# Altium schematic symbol library 电源管理.SCHLIB: 68 symbols
Pins are listed as number, name and electrical type; pins without a type are passive.

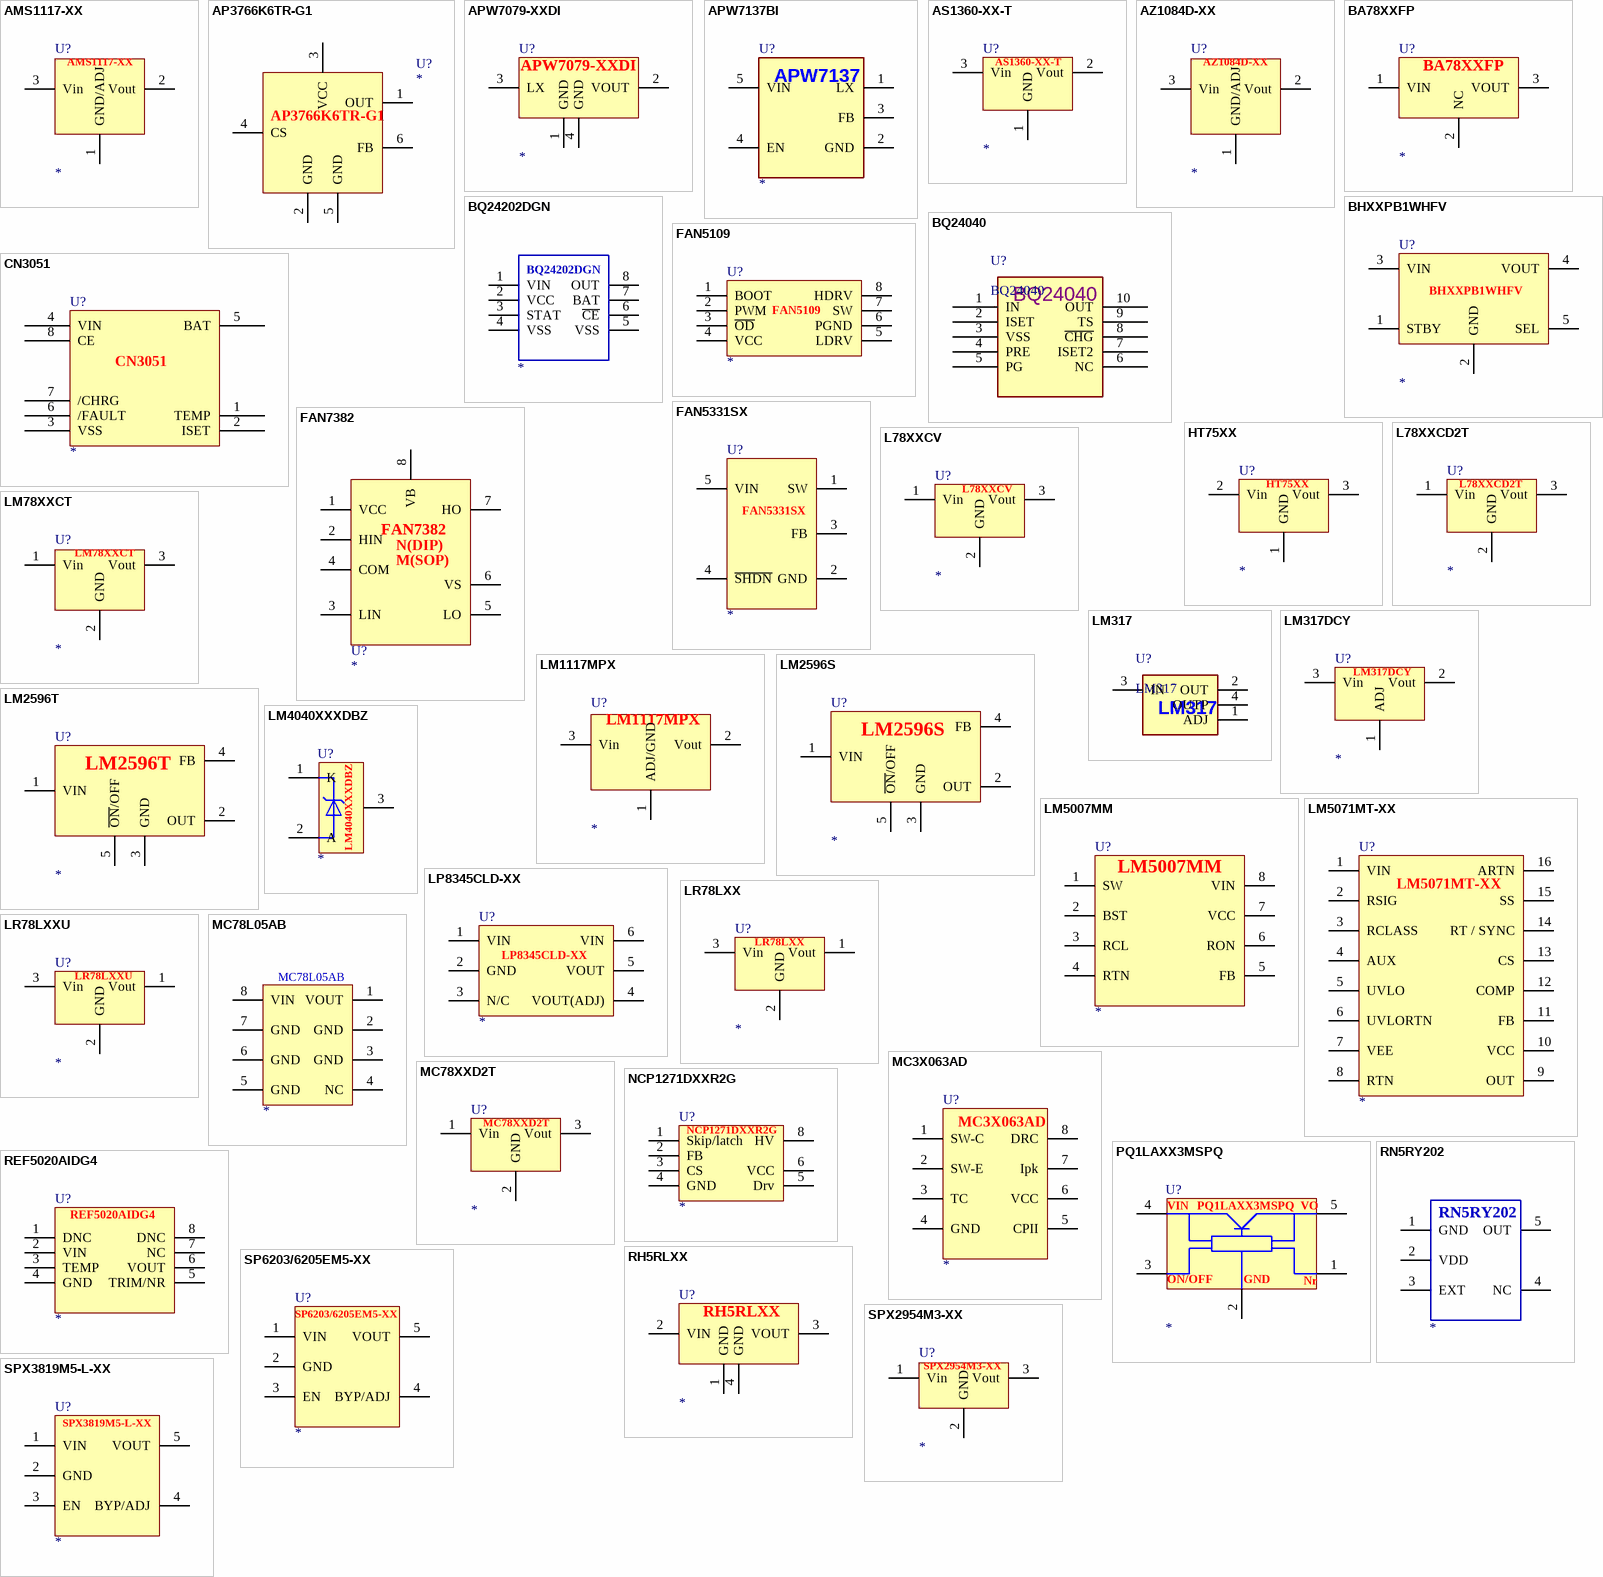
[diagram p0: symbols AMS1117-XX to SPX3819M5-L-XX]

## AMS1117-XX
designator U?
AMS   800mA LOW DROPOUT VOLTAGE REGULATOR
footprint SOT-223-4
pins: 1 GND/ADJ, 2 Vout, 3 Vin

## AP3766K6TR-G1
designator U?
BCD LOW-POWER OFF-LINE PRIMARY SIDE REGULATION CONTROLLER
footprint SOT-23-6P
pins: 1 OUT, 2 GND, 3 VCC, 4 CS, 5 GND, 6 FB

## APW7079-XXDI
designator U?
ANPEC Low-Supply-Current Synchronous Step-up DC-DC Converter
footprint SOT-89-4P
pins: 1 GND, 2 VOUT, 3 LX, 4 GND

## APW7137BI
designator U?
ANPEC  1MHz, High Efficiency, Step-Up Converter with Internal FET Switch
footprint SOT-23-5P
pins: 1 LX, 2 GND, 3 FB, 4 EN, 5 VIN
text: APW7137

## AS1360-XX-T
designator U?
AUMS 1.5μA Low-Power, Positive Voltage Regulator
footprint SOT-23-3P
pins: 1 GND, 2 Vout, 3 Vin

## AZ1084D-XX
designator U?
BCD  5A LOW DROPOUT LINEAR REGULATOR
footprint TO-252-3
pins: 1 GND/ADJ, 2 Vout, 3 Vin

## BA78XXFP
designator U?
ROHM 1A Output 78 series Regulators
footprint TO-252-3
pins: 1 VIN, 2 NC, 3 VOUT

## BHXXPB1WHFV
designator U?
ROHM  150mA LDO
footprint HNSOF5
pins: 1 STBY, 2 GND, 3 VIN, 4 VOUT, 5 SEL

## BQ24040
designator U?
pins: 1 IN, 2 ISET, 3 VSS, 4 PRE, 5 PG, 6 NC, 7 ISET2, 8 ~{CHG}, 9 TS, 10 OUT

## BQ24202DGN
designator ?
pins: 1 VIN (oe), 2 VCC (oe), 3 STAT (oe), 4 VSS (oe), 5 VSS (oe), 6 ~{CE} (oe), 7 BAT (oe), 8 OUT (oe)

## CN3051
designator U?
如韵电子 充电管理芯片
footprint SOIC-8P
pins: 1 TEMP, 2 ISET, 3 VSS, 4 VIN, 5 BAT, 6 /FAULT, 7 /CHRG, 8 CE

## FAN5109
designator U?
Dual Bootstrapped 12V MOSFET Driver
footprint SOIC-8P
pins: 1 BOOT, 2 PWM, 3 ~{OD}, 4 VCC, 5 LDRV, 6 PGND, 7 SW, 8 HDRV

## FAN5331SX
designator U?
fairchild  1.6MHz Boost Converter with 20V Integrated FET Switch
footprint SOT-23-5P
pins: 1 SW, 2 GND, 3 FB, 4 ~{SHDN}, 5 VIN

## FAN7382
designator U?
Half-Bridge Gate-Driver IC
footprint DIP-8
footprint SOIC-8P
pins: 1 VCC, 2 HIN, 3 LIN, 4 COM, 5 LO, 6 VS, 7 HO, 8 VB
text: N(DIP); M(SOP)

## HT75XX
designator U?
HOLTEK three-terminal high current low voltage regulator
footprint SOT-89-4P
footprint TO-92
pins: 1 GND, 2 Vin, 3 Vout

## L78XXCD2T
designator U?
ST POSITIVE VOLTAGE REGULATORS
footprint TO-263-3
pins: 1 Vin, 2 GND, 3 Vout

## L78XXCV
designator U?
ST POSITIVE VOLTAGE REGULATORS
footprint TO-220B
pins: 1 Vin, 2 GND, 3 Vout

## LM78XXCT
designator U?
NS Voltage Regulators
footprint TO-220B
pins: 1 Vin, 2 GND, 3 Vout

## LM317
designator U?
pins: 1 ADJ, 2 OUT, 3 IN, 4 OUTP

## LM317DCY
designator U?
TI 3-TERMINAL ADJUSTABLE REGULATOR
footprint SOT-223-4
pins: 1 ADJ, 2 Vout, 3 Vin

## LM1117MPX
designator U?
NS 800mA Low-Dropout Linear Regulator
footprint SOT-223-4
pins: 1 ADJ/GND, 2 Vout, 3 Vin

## LM2596S
designator U?
NS SIMPLE SWITCHER?Power Converter 150 kHz
footprint TO-263-5
pins: 1 VIN, 2 OUT, 3 GND, 4 FB, 5 ~{ON}/OFF

## LM2596T
designator U?
NS SIMPLE SWITCHER?Power Converter 150 kHz
footprint TO-220-5-V
pins: 1 VIN, 2 OUT, 3 GND, 4 FB, 5 ~{ON}/OFF

## LM4040XXXDBZ
designator U?
TI PRECISION MICROPOWER SHUNT VOLTAGE REFERENCE
footprint SOT-23-3P
pins: 1 K, 2 A, 3

## LM5007MM
designator U?
NS High Voltage (80V) Step Down Switching Regulator
footprint SSOP-8P
pins: 1 SW, 2 BST, 3 RCL, 4 RTN, 5 FB, 6 RON, 7 VCC, 8 VIN

## LM5071MT-XX
designator U?
NS Power Over Ethernet PD Controller with Auxiliary Power
footprint TSSOP-16P
pins: 1 VIN, 2 RSIG, 3 RCLASS, 4 AUX, 5 UVLO, 6 UVLORTN, 7 VEE, 8 RTN, 9 OUT, 10 VCC, 11 FB, 12 COMP, 13 CS, 14 RT / SYNC, 15 SS, 16 ARTN

## LP8345CLD-XX
designator U?
NS Low Dropout, Low IQ, 500mA CMOS Linear Regulator
footprint SON-6P
pins: 1 VIN, 2 GND, 3 N/C, 4 VOUT(ADJ), 5 VOUT, 6 VIN

## LR78LXX
designator U?
LRC Series3-Terminal 0.1A Positive Voltage Regulators
footprint TO-92
pins: 1 Vout, 2 GND, 3 Vin

## LR78LXXU
designator U?
LRC Series3-Terminal 0.1A Positive Voltage Regulators
footprint SOT-89-4P
pins: 1 Vout, 2 GND, 3 Vin

## MC3X063AD
designator U?
ON 1.5 A, Step-Up/Down/ Inverting Switching Regulators
footprint SOIC-8P
pins: 1 SW-C, 2 SW-E, 3 TC, 4 GND, 5 CPII, 6 VCC, 7 Ipk, 8 DRC

## MC78L05AB
designator ?
pins: 1 VOUT, 2 GND, 3 GND, 4 NC, 5 GND, 6 GND, 7 GND, 8 VIN

## MC78XXD2T
designator U?
ON 1.0 A Positive Voltage
footprint TO-263-3
pins: 1 Vin, 2 GND, 3 Vout

## NCP1271DXXR2G
designator U?
ON  Soft.Skip Mode Standby PWM Controller with  Adjustable Skip Level and  External Latch
footprint SOIC-7P
pins: 1 Skip/latch, 2 FB, 3 CS, 4 GND, 5 Drv, 6 VCC, 8 HV

## PQ1LAXX3MSPQ
designator U?
SHARP  Low Power-Loss Voltage Regulators
footprint PQ1LAXX3MSPQ
pins: 1 Nr, 2 GND, 3 ON/OFF, 4 VIN, 5 VO

## REF5020AIDG4
designator U?
TI  Low-Noise, Very Low Drift, Precision
footprint SOIC-8P
pins: 1 DNC, 2 VIN, 3 TEMP, 4 GND, 5 TRIM/NR, 6 VOUT, 7 NC, 8 DNC

## RH5RLXX
designator U?
RICOH voltage regulator ICs with high accuracy output voltage and ultra-low quiescent current
footprint SOT-89-4P
pins: 1 GND, 2 VIN, 3 VOUT, 4 GND

## RN5RY202
designator ?
pins: 1 GND (oe), 2 VDD (oe), 3 EXT (oe), 4 NC (oe), 5 OUT (oe)

## SP6203/6205EM5-XX
designator U?
SIPEX   Low Noise, 300mA and 500mA CMOS LDO Regulators
footprint SOT-23-5P
pins: 1 VIN, 2 GND, 3 EN, 4 BYP/ADJ, 5 VOUT

## SPX2954M3-XX
designator U?
SIPEX   250mA Low Dropout Voltage Regulator
footprint SOT-223-4
pins: 1 Vin, 2 GND, 3 Vout

## SPX3819M5-L-XX
designator U?
SIPEX   500mA, LOW-NOISE LDO VOLTAGE REGULATOR
footprint SOT-23-5P
pins: 1 VIN, 2 GND, 3 EN, 4 BYP/ADJ, 5 VOUT

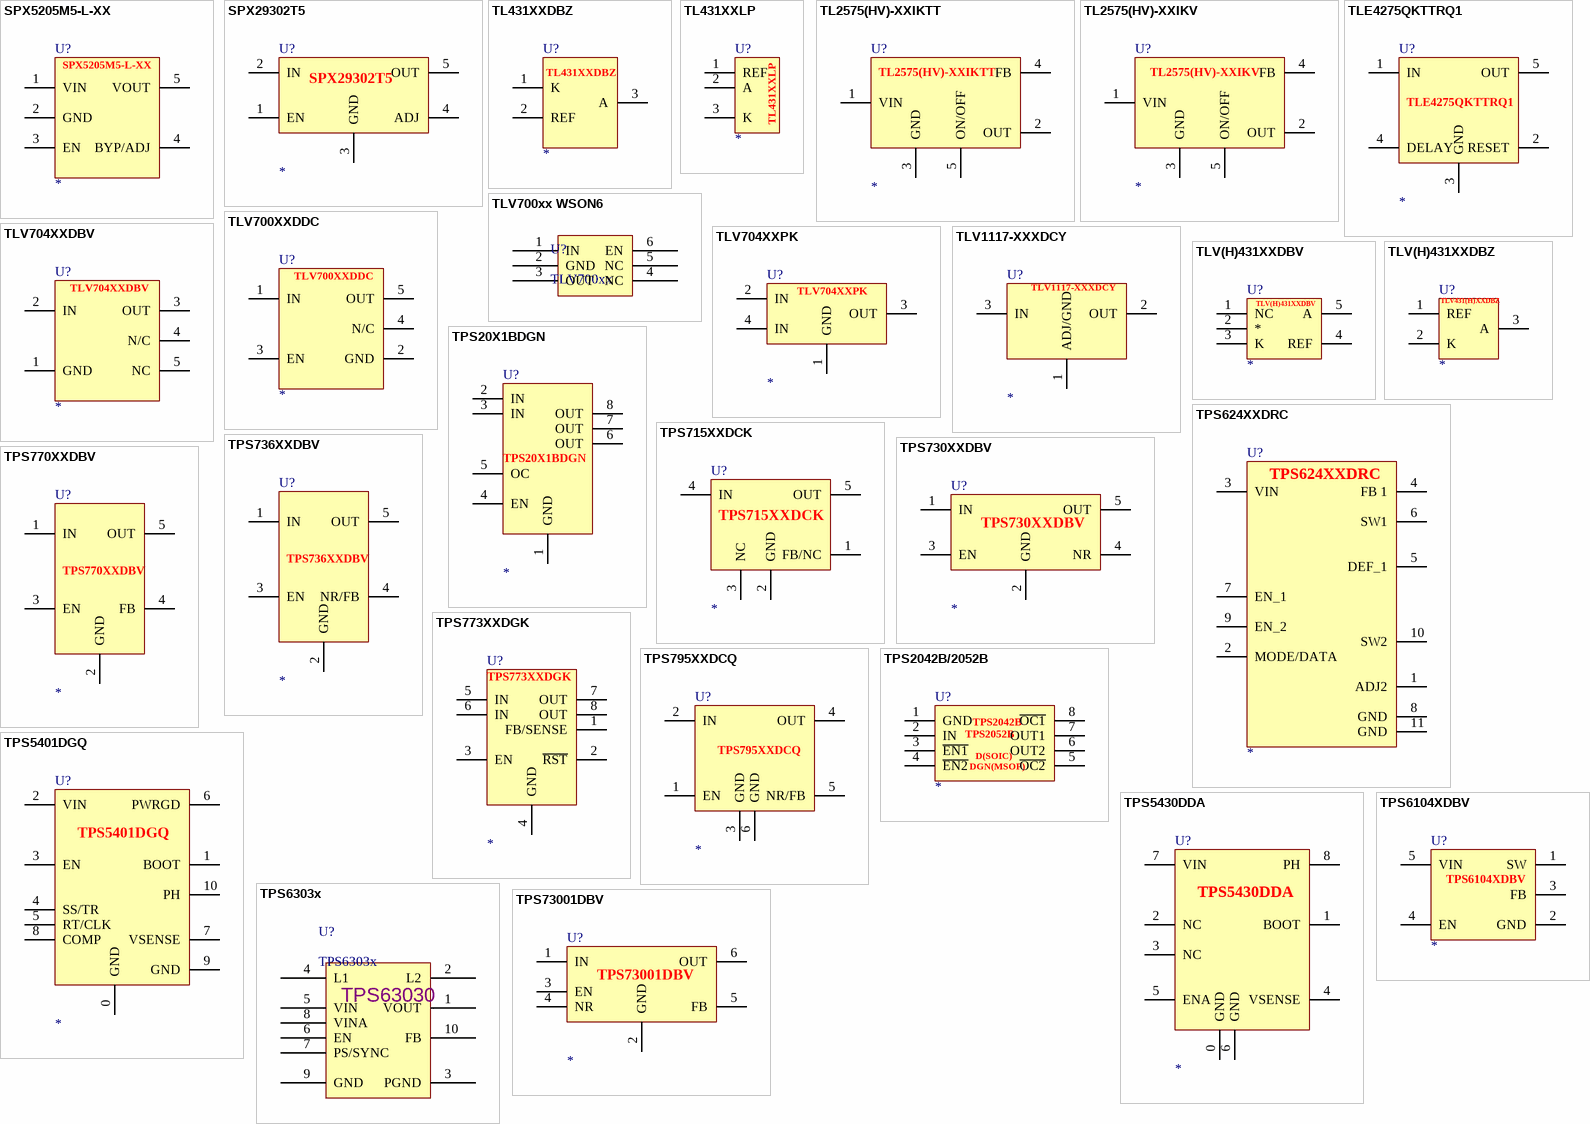
[diagram p1: symbols SPX5205M5-L-XX to TPS73001DBV]

## SPX5205M5-L-XX
designator U?
SIPEX   150mA, LOW-NOISE LDO VOLTAGE REGULATOR
footprint SOT-23-5P
pins: 1 VIN, 2 GND, 3 EN, 4 BYP/ADJ, 5 VOUT

## SPX29302T5
designator U?
SIPEX   3A High Current, Low Dropout Voltage Regulator
footprint TO-263-5
pins: 1 EN, 2 IN, 3 GND, 4 ADJ, 5 OUT

## TL431XXDBZ
designator U?
TI  three-terminal adjustable shunt regulators,
footprint SOT-23-3P
pins: 1 K, 2 REF, 3 A

## TL431XXLP
designator U?
TI three-terminal adjustable shunt regulators,
footprint TO-92
pins: 1 REF, 2 A, 3 K

## TL2575(HV)-XXIKTT
designator U?
TI 1-A SIMPLE STEP-DOWN SWITCHING VOLTAGE REGULATORS
footprint TO-263-5
pins: 1 VIN, 2 OUT, 3 GND, 4 FB, 5 ON/OFF

## TL2575(HV)-XXIKV
designator U?
TI 1-A SIMPLE STEP-DOWN SWITCHING VOLTAGE REGULATORS
footprint TO-220-5-V
pins: 1 VIN, 2 OUT, 3 GND, 4 FB, 5 ON/OFF

## TLE4275QKTTRQ1
designator U?
TI 5-V LOW-DROPOUT VOLTAGE REGULATOR
footprint TO-263-5
pins: 1 IN, 2 RESET, 3 GND, 4 DELAY, 5 OUT

## TLV700xx WSON6
designator U?, comment TLV700xx
pins: 1 IN, 2 GND, 3 OUT, 4 NC, 5 NC, 6 EN

## TLV700XXDDC
designator U?
TI 200-mA LOW-IQ LOW-DROPOUT REGULATOR FOR PORTABLE DEVICES
footprint SOT-23-5P
pins: 1 IN, 2 GND, 3 EN, 4 N/C, 5 OUT

## TLV704XXDBV
designator U?
TI 24-V Input Voltage, 150-mA, Ultralow IQ Low-Dropout Regulators
footprint SOT-23-5P
pins: 1 GND, 2 IN, 3 OUT, 4 N/C, 5 NC

## TLV704XXPK
designator U?
TI 24-V Input Voltage, 150-mA, Ultralow IQ Low-Dropout Regulators
footprint SOT-89-4P
pins: 1 GND, 2 IN, 3 OUT, 4 IN

## TLV1117-XXXDCY
designator U?
TI ADJUSTABLE AND FIXED LOW-DROPOUT VOLTAGE REGULATOR
footprint SOT-223-4
pins: 1 ADJ/GND, 2 OUT, 3 IN

## TLV(H)431XXDBV
designator U?
TI  low-voltage 3-terminal adjustable voltage reference with specified thermal stability over
footprint SOT-23-5P
pins: 1 NC, 2 *, 3 K, 4 REF, 5 A

## TLV(H)431XXDBZ
designator U?
TI low-voltage 3-terminal adjustable voltage reference with specified thermal stability over
footprint SOT-23-3P
pins: 1 REF, 2 K, 3 A
text: TLV431(H)XXDBZ

## TPS20X1BDGN
designator U?
TI CURRENT-LIMITED, POWER-DISTRIBUTION SWITCHES
footprint MSOP-8P-0.65MM-T
pins: 1 GND, 2 IN, 3 IN, 4 EN, 5 OC, 6 OUT, 7 OUT, 8 OUT

## TPS624XXDRC
designator U?
TI 2.25MHz 400mA/600mA Dual Step-Down Converter In Small 3x3mm QFN Package
footprint QFN-10P-0.5MM
pins: 1 ADJ2, 2 MODE/DATA, 3 VIN, 4 FB 1, 5 DEF_1, 6 SW1, 7 EN_1, 8 GND, 9 EN_2, 10 SW2, 11 GND

## TPS715XXDCK
designator U?
TI 50 mA, 24 V, 3.2 mA Supply Current Low-Dropout Linear Regulator in SC70 Package
footprint SOT-323
pins: 1 FB/NC, 2 GND, 3 NC, 4 IN, 5 OUT

## TPS730XXDBV
designator U?
TI LOW-NOISE, HIGH PSRR, RF 200-mA LOW-DROPOUT LINEAR REGULATORS
footprint SOT-23-5P
pins: 1 IN, 2 GND, 3 EN, 4 NR, 5 OUT

## TPS736XXDBV
designator U?
TI Cap-Free, NMOS, 400mA Low-Dropout Regulator
footprint SOT-23-5P
pins: 1 IN, 2 GND, 3 EN, 4 NR/FB, 5 OUT

## TPS770XXDBV
designator U?
TI ULTRA LOW-POWER 50-mA LOW-DROPOUT LINEAR REGULATORS
footprint SOT-23-5P
pins: 1 IN, 2 GND, 3 EN, 4 FB, 5 OUT

## TPS773XXDGK
designator U?
TI WITH RESET OUTPUT 250-mA LDO REGULATORS WITH INTEGRATED RESET
footprint MSOP-8P-0.65MM
pins: 1 FB/SENSE, 2 ~{RST}, 3 EN, 4 GND, 5 IN, 6 IN, 7 OUT, 8 OUT

## TPS795XXDCQ
designator U?
TI
footprint SOT-223-6
pins: 1 EN, 2 IN, 3 GND, 4 OUT, 5 NR/FB, 6 GND

## TPS2042B/2052B
designator U?
CURRENT-LIMITED, POWER-DISTRIBUTION SWITCHES
footprint SSOP-8P - T
footprint SOIC-8P
pins: 1 GND, 2 IN, 3 ~{EN1}, 4 ~{EN2}, 5 ~{OC2}, 6 OUT2, 7 OUT1, 8 ~{OC1}
text: TPS2042B; TPS2052B; D(SOIC); DGN(MSOP)

## TPS5401DGQ
designator U?
TI 0.5-A, 42-V Input, Step-Down SWIFT. Converter
footprint MSOP-10P - T
pins: 0 GND, 1 BOOT, 2 VIN, 3 EN, 4 SS/TR, 5 RT/CLK, 6 PWRGD, 7 VSENSE, 8 COMP, 9 GND, 10 PH

## TPS5430DDA
designator U?
TI 5.5-V to 36-V, 3-A STEP-DOWN SWIFT. CONVERTER
footprint SOIC-8P - T
pins: 0 GND, 1 BOOT, 2 NC, 3 NC, 4 VSENSE, 5 ENA, 6 GND, 7 VIN, 8 PH

## TPS6104XDBV
designator U?
TI LOW POWER DC/DC BOOST CONVERTER IN SOT-23 PACKAGE
footprint SOT-23-5P
pins: 1 SW, 2 GND, 3 FB, 4 EN, 5 VIN

## TPS6303x
designator U?
pins: 1 VOUT, 2 L2, 3 PGND, 4 L1, 5 VIN, 6 EN, 7 PS/SYNC, 8 VINA, 9 GND, 10 FB
text: TPS63030

## TPS73001DBV
designator U?
TI LOW-NOISE, HIGH PSRR, RF 200-mA
footprint SOT-23-6P
pins: 1 IN, 2 GND, 3 EN, 4 NR, 5 FB, 6 OUT